# Altium footprint library PCB1.PcbLib: 20 footprints (part 1 of 2)
Each footprint in its own frame and in the unit in brackets; x right, y up, seen from the top. Pads: shape width x height; smd on the part's side, far side on the other; paste and mask are expansions set on the pad; w line width, h text height; cw(c..) or ccw(c..) is an arc to the next point about the centre after c.
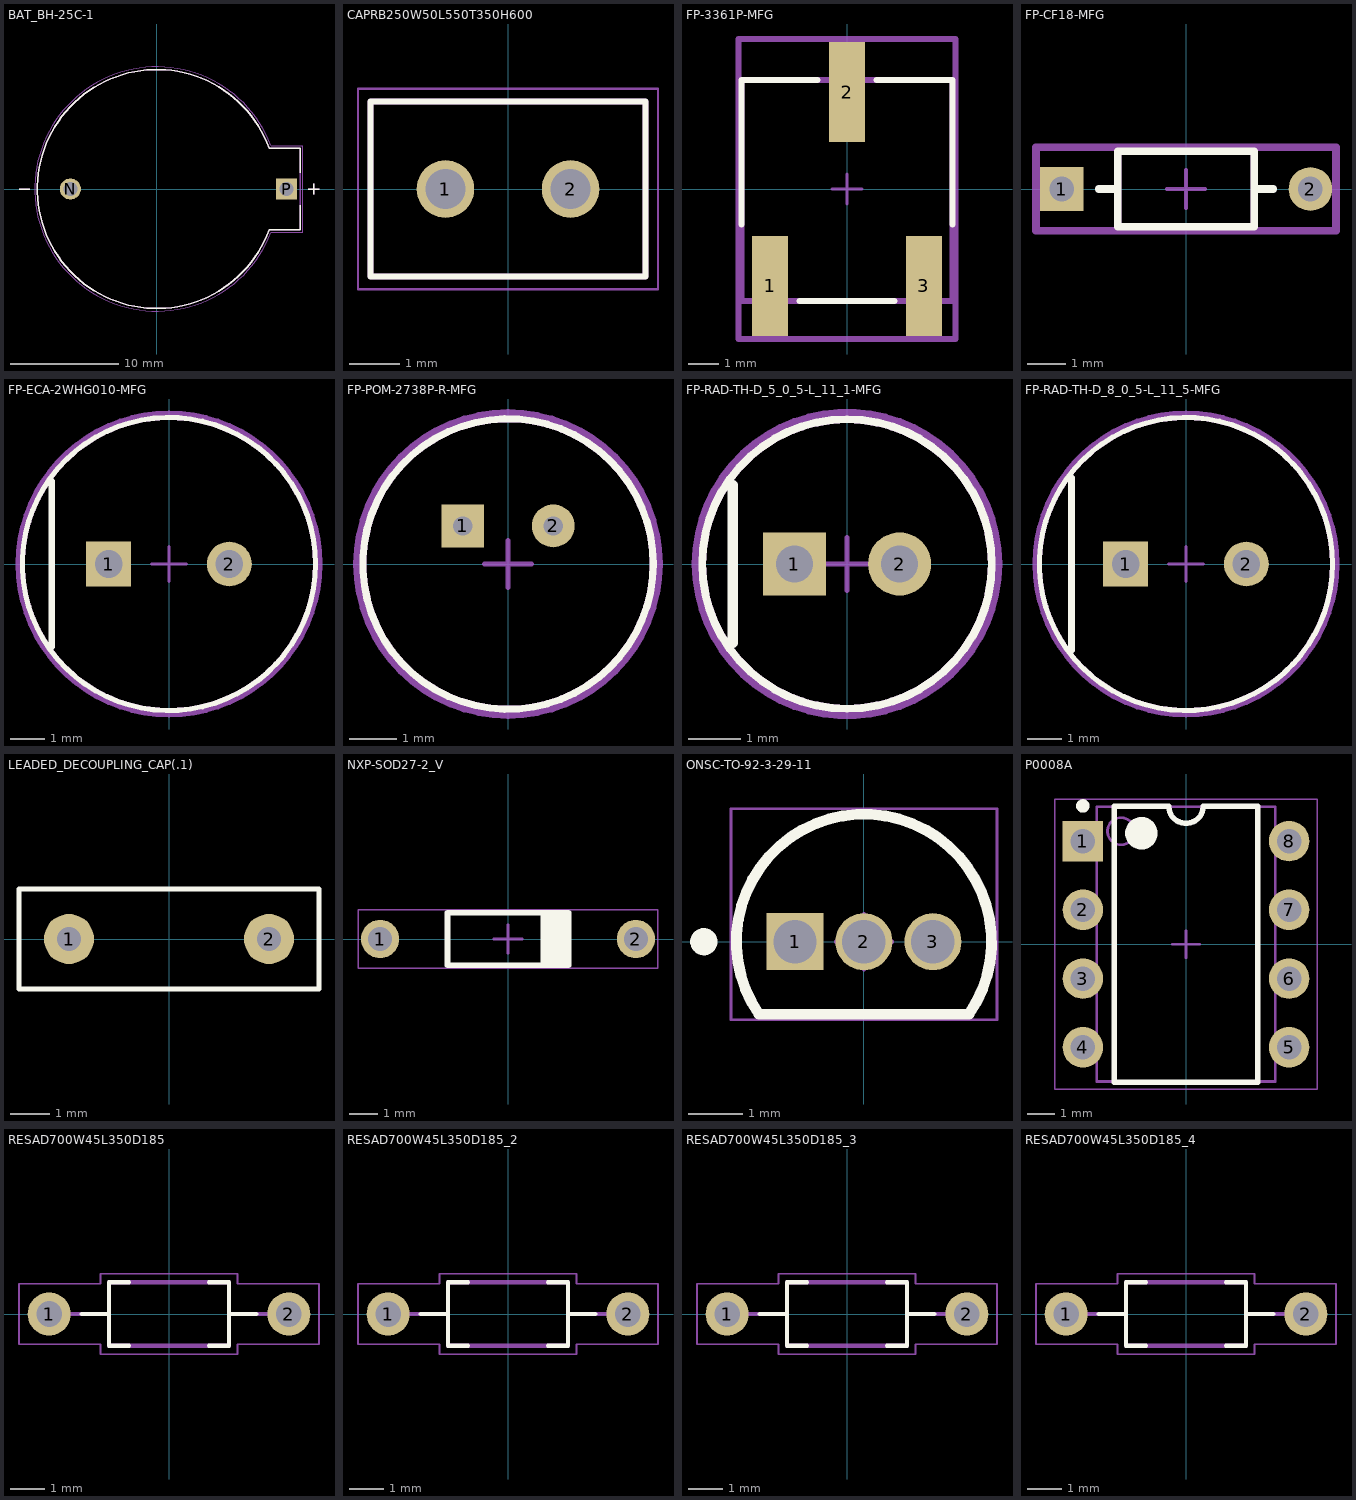
[diagram p0: the footprints below, top view; thin cyan lines are the x and y axes]

## BAT_BH-25C-1 [mm]
height 8.7
pads (2):
  round 1.95 hole 1.3: N(-8,0)
  rect 1.95x1.95 / inner round 1.95 / far side rect 1.95x1.95 hole 1.3: P(12,0)
Top Overlay:
  lines w0.127: -12.75,0 -11.75,0 ; 10.384,-3.779 cw(c0.001,0) 10.384,3.779 ; 10.394,-3.75 13.25,-3.75 13.25,-1.5 ; 10.394,3.75 13.25,3.75 13.25,1.5 ; 14,0 15,0 ; 14.5,-0.5 14.5,0.5
Mechanical 13:
  lines w0.127: -12.75,0 -11.75,0 ; 10.384,-3.779 cw(c0.001,0) 10.384,3.779 ; 10.394,-3.75 13.25,-3.75 13.25,3.75 10.394,3.75 ; 14,0 15,0 ; 14.5,-0.5 14.5,0.5
Mechanical 15:
  lines w0.05: 10.549,-4.05 cw(c-0.001,0) 10.549,4.05 ; 10.568,-4 13.5,-4 13.5,4 10.568,4

## CAPRB250W50L550T350H600 [mm]
height 8.7
pads (2):
  round 1.15 hole 0.8: 1(-1.25,0) 2(1.25,0)
Top Overlay:
  lines w0.127: -2.75,-1.75 -2.75,1.75 2.75,1.75 2.75,-1.75 -2.75,-1.75
Mechanical 13:
  lines w0.127: -2.75,-1.75 2.75,-1.75 2.75,1.75 -2.75,1.75 -2.75,-1.75
Mechanical 15:
  lines w0.05: -3,-2 3,-2 3,2 -3,2 -3,-2
3D body "step_temp.STEP": height 3, standoff -12, extent -2.75,-1.75 2.75,1.75

## FP-3361P-MFG [mm]
height 8.7
pads (3):
  rect 1.19x3.3 smd paste+0 mask+0: 1(-2.54,-3.2) 2(0,3.2) 3(2.54,-3.2)
Top Overlay:
  lines w0.2: -3.48,-1.175 -3.48,3.6 -0.97,3.6 ; -1.57,-3.69 1.57,-3.69 ; 0.97,3.6 3.48,3.6 3.48,-1.175
Top 3D Body:
  lines w0.2: -3.48,-3.69 -3.48,3.6 3.48,3.6 3.48,-3.69 -3.48,-3.69
Top Courtyard:
  lines w0.2: -3.58,-4.95 -3.58,4.95 3.58,4.95 3.58,-4.95 -3.58,-4.95
Top Assembly:
  lines w0.2: -3.58,-4.95 -3.58,4.95 3.58,4.95 3.58,-4.95 -3.58,-4.95
  text ".Designator" at 0,-0.001 h1
Top Component Center:
  lines w0.1: -0.5,0 0.5,0 ; 0,-0.5 0,0.5
3D body "Res_Bourns_3361P-1-502GLF_eec.STEP": height 0.25, standoff 0, extent -3.58,-4.95 3.58,4.95

## FP-CF18-MFG [mm]
height 8.7
pads (2):
  rect 1.15x1.15 hole 0.65 paste-2539.97 mask+0: 1(-3.28,0)
  round 1.15 hole 0.65 paste-2539.97 mask+0: 2(3.28,0)
Top Overlay:
  lines w0.2: -2.305,0 -1.8,0 ; 1.8,0 2.305,0 ; -1.8,-1 -1.8,1 1.8,1 1.8,-1 -1.8,-1
Top 3D Body:
  lines w0.2: -1.8,-1 -1.8,1 1.8,1 1.8,-1 -1.8,-1
Top Courtyard:
  lines w0.2: -3.955,-1.1 -3.955,1.1 3.955,1.1 3.955,-1.1 -3.955,-1.1
Top Assembly:
  lines w0.2: -3.955,-1.1 -3.955,1.1 3.955,1.1 3.955,-1.1 -3.955,-1.1
  text ".Designator" at 0,0.188 h1
Top Component Center:
  lines w0.1: -0.5,0 0.5,0 ; 0,-0.5 0,0.5
3D body "Res_Stackpole_Electronics_CF18JT10K0_eec.STEP": height 0.25, standoff 0, extent -3.955,-1.1 3.955,1.1

## FP-ECA-2WHG010-MFG [mm]
height 8.7
pads (2):
  rect 1.3x1.3 hole 0.8 paste-2539.97 mask+0: 1(-1.75,0)
  round 1.3 hole 0.8 paste-2539.97 mask+0: 2(1.75,0)
Top Overlay:
  circle w0.15: c0,0 r4.25
  lines w0.2: -3.4,-2.4 -3.4,2.4
Top 3D Body:
  circle w0.15: c0,0 r4.25
Top Courtyard:
  lines w0.2: -4.35,0 ccw(c0,0) 4.35,0 ccw(c0,0) -4.35,0
Top Assembly:
  text ".Designator" at 0,0.188 h1
Top Component Center:
  lines w0.1: -0.5,0 0.5,0 ; 0,-0.5 0,0.5
3D body "Cap_Panasonic_Electronic_Components_ECA-2WHG010_eec.STEP": height 0.25, standoff 0, extent -4.35,-4.35 4.35,4.35

## FP-POM-2738P-R-MFG [mm]
height 8.7
pads (2):
  rect 0.9x0.9 hole 0.4 paste-2539.97 mask+0: 1(-0.95,0.8)
  round 0.9 hole 0.4 paste-2539.97 mask+0: 2(0.95,0.8)
Top Overlay:
  circle w0.15: c0,0 r3.05
Top 3D Body:
  circle w0.15: c0,0 r3.05
Top Courtyard:
  lines w0.2: -3.15,0 ccw(c0,0) 3.15,0 ccw(c0,0) -3.15,0
Top Assembly:
  text ".Designator" at 0,-0.001 h1
Top Component Center:
  lines w0.1: -0.5,0 0.5,0 ; 0,-0.5 0,0.5
3D body "Speak_PUI_Audio_Inc_POM-2738P-R_eec.STEP": height 0.25, standoff 0, extent -3.15,-3.15 3.15,3.15

## FP-RAD-TH-D_5_0_5-L_11_1-MFG [mm]
height 8.7
pads (2):
  rect 1.2x1.2 hole 0.7 paste-2539.97 mask+0: 1(-1,0)
  round 1.2 hole 0.7 paste-2539.97 mask+0: 2(1,0)
Top Overlay:
  circle w0.15: c0,0 r2.75
  lines w0.2: -2.175,-1.5 -2.175,1.5
Top 3D Body:
  circle w0.15: c0,0 r2.75
Top Courtyard:
  lines w0.2: -2.85,0 ccw(c0,0) 2.85,0 ccw(c0,0) -2.85,0
Top Assembly:
  text ".Designator" at 0,0.188 h1
Top Component Center:
  lines w0.1: -0.5,0 0.5,0 ; 0,-0.5 0,0.5
3D body "Cap_Panasonic_ECA1CM220B_eec.STEP": height 0.25, standoff 0, extent -2.85,-2.85 2.85,2.85

## FP-RAD-TH-D_8_0_5-L_11_5-MFG [mm]
height 8.7
pads (2):
  rect 1.3x1.3 hole 0.8 paste-2539.97 mask+0: 1(-1.75,0)
  round 1.3 hole 0.8 paste-2539.97 mask+0: 2(1.75,0)
Top Overlay:
  circle w0.15: c0,0 r4.25
  lines w0.2: -3.325,-2.5 -3.325,2.5
Top 3D Body:
  circle w0.15: c0,0 r4.25
Top Courtyard:
  lines w0.2: -4.35,0 ccw(c0,0) 4.35,0 ccw(c0,0) -4.35,0
Top Assembly:
  text ".Designator" at 0,0.188 h1
Top Component Center:
  lines w0.1: -0.5,0 0.5,0 ; 0,-0.5 0,0.5
3D body "Cap_Panasonic_EEUFK1V181_eec.STEP": height 0.25, standoff 0, extent -4.35,-4.35 4.35,4.35

## LEADED_DECOUPLING_CAP(.1) [mil]
height 342.52
pads (2):
  round 50 hole 24: 1(-100,0) 2(100,0)
Top Overlay:
  lines w5: -150,-50 -150,50 150,50 150,-50 -150,-50
Mechanical 13:
  text ".1uF" at -125.2,-125.2 h50.08

## NXP-SOD27-2_V [mm] "SOD27, 2-Leads, Dia 1.85mm, Body Length 4.25mm, Pin Spacing 9mm"
height 1.85
pads (2):
  round 1.35 hole 0.85: 1(-4.5,0) 2(4.5,0)
Top Overlay:
  rectangle: 1.143,-0.925 2.125,0.925
  lines w0.2: -2.125,-0.925 -2.125,0.925 2.125,0.925 2.125,-0.925 -2.125,-0.925
Mechanical 13:
  lines w0.1: -2.125,-0.925 2.125,-0.925 2.125,0.925 -2.125,0.925 -2.125,-0.925
Mechanical 15:
  lines w0.05: -5.275,-1.025 -5.275,1.025 5.275,1.025 5.275,-1.025 -5.275,-1.025
  lines w0.1: -0.5,0 0.5,0 ; 0,-0.5 0,0.5
3D body: height 1.84, standoff 0, extent -2.125,-0.925 2.125,0.921
3D body: height 0.92, standoff -2, extent -4.778,-0.279 -4.22,0.28
3D body: height 0.92, standoff -2, extent 4.222,-0.279 4.78,0.28
3D body: height 1.2, standoff 0.64, extent 2.125,-0.279 4.5,0.279
3D body: height 1.2, standoff 0.64, extent -4.5,-0.279 -2.125,0.28
3D body: height 1.2, standoff 0.64, extent -4.777,-0.279 -4.22,0.279
3D body: height 1.2, standoff 0.64, extent 4.223,-0.279 4.78,0.279

## ONSC-TO-92-3-29-11 [mm] "TO, 3-Leads, Body Dia 4.7mm, Pitch 1.27mm"
height 7.87
pads (3):
  rect 1.05x1.05 hole 0.8: 1(-1.27,0)
  round 1.05 hole 0.8: 2(0,0) 3(1.27,0)
Top Overlay:
  circle w0.25: c-2.95,0 r0.125
  lines w0.2: -1.934,-1.335 cw(c0,0) 1.934,-1.335 -1.934,-1.335
Mechanical 13:
  lines w0.1: -1.934,-1.335 cw(c0,0) 1.934,-1.335 -1.934,-1.335
Mechanical 15:
  lines w0.05: -2.45,-1.435 -2.45,2.45 2.45,2.45 2.45,-1.435 -2.45,-1.435
  lines w0.1: -0.5,0 0.5,0 ; 0,-0.5 0,0.5
3D body: height 7.87, standoff 2.54, extent -2.349,-1.334 2.357,2.359

## P0008A [mm] "DIP, 8-Leads, Body 10.15x6.6mm, Pitch 2.54mm"
height 5.08
pads (8):
  rect 1.5x1.5 hole 0.9: 1(-3.81,3.81)
  round 1.5 hole 0.9: 2(-3.81,1.27) 3(-3.81,-1.27) 4(-3.81,-3.81) 5(3.81,-3.81) 6(3.81,-1.27) 7(3.81,1.27) 8(3.81,3.81)
Top Overlay:
  circle w0.25: c-3.81,5.11 r0.125
  circle w0.6: c-1.65,4.1 r0.3
  lines w0.2: -2.65,-5.1 -2.65,5.1 -0.635,5.1 ccw(c0,5.1) 0.635,5.1 2.65,5.1 2.65,-5.1 -2.65,-5.1
Mechanical 13:
  circle w0.1: c-2.4,4.175 r0.5
  lines w0.1: -3.3,-5.075 -3.3,5.075 3.3,5.075 3.3,-5.075 -3.3,-5.075
Mechanical 15:
  lines w0.05: -4.85,-5.35 -4.85,5.35 4.85,5.35 4.85,-5.35 -4.85,-5.35
  lines w0.1: -0.5,0 0.5,0 ; 0,-0.5 0,0.5
3D body: height 2.66, standoff 0, extent -3.945,3.31 -3.675,4.31
3D body: height 2.93, standoff 2.66, extent -3.945,3.31 -3.3,4.31
3D body: height 0, standoff -1.6, extent -3.945,3.45 -3.675,4.17
3D body: height 2.66, standoff 0, extent -3.945,0.77 -3.675,1.77
3D body: height 2.93, standoff 2.66, extent -3.945,0.77 -3.3,1.77
3D body: height 0, standoff -1.6, extent -3.945,0.91 -3.675,1.63
3D body: height 2.66, standoff 0, extent -3.945,-1.77 -3.675,-0.77
3D body: height 2.93, standoff 2.66, extent -3.945,-1.77 -3.3,-0.77
3D body: height 0, standoff -1.6, extent -3.945,-1.63 -3.675,-0.91
3D body: height 2.66, standoff 0, extent -3.945,-4.31 -3.675,-3.31
3D body: height 2.93, standoff 2.66, extent -3.945,-4.31 -3.3,-3.31
3D body: height 0, standoff -1.6, extent -3.945,-4.17 -3.675,-3.45
3D body: height 2.66, standoff 0, extent 3.675,-4.31 3.945,-3.31
3D body: height 2.93, standoff 2.66, extent 3.3,-4.31 3.945,-3.31
3D body: height 0, standoff -1.6, extent 3.675,-4.17 3.945,-3.45
3D body: height 2.66, standoff 0, extent 3.675,-1.77 3.945,-0.77
3D body: height 2.93, standoff 2.66, extent 3.3,-1.77 3.945,-0.77
3D body: height 0, standoff -1.6, extent 3.675,-1.63 3.945,-0.91
3D body: height 2.66, standoff 0, extent 3.675,0.77 3.945,1.77
3D body: height 2.93, standoff 2.66, extent 3.3,0.77 3.945,1.77
3D body: height 0, standoff -1.6, extent 3.675,0.91 3.945,1.63
3D body: height 2.66, standoff 0, extent 3.675,3.31 3.945,4.31
3D body: height 2.93, standoff 2.66, extent 3.3,3.31 3.945,4.31
3D body: height 0, standoff -1.6, extent 3.675,3.45 3.945,4.17
3D body: height 5.08, standoff 0.51, extent -3.3,-5.075 3.3,5.075

## RESAD700W45L350D185 [mm]
height 3.85
pads (2):
  round 1.258 hole 0.75: 1(-3.5,0) 2(3.5,0)
Top Overlay:
  lines w0.127: -2.55,0 -1.75,0 ; -1.17,-0.925 -1.75,-0.925 -1.75,0 ; -1.17,0.925 -1.75,0.925 -1.75,0 ; 1.17,-0.925 1.75,-0.925 1.75,0 ; 1.17,0.925 1.75,0.925 1.75,0 ; 2.55,0 1.75,0
Mechanical 13:
  lines w0.127: -2.925,0 -1.75,0 ; 2.925,0 1.75,0 ; -1.75,0 -1.75,-0.925 1.75,-0.925 1.75,0 ; -1.75,0 -1.75,0.925 1.75,0.925 1.75,0
Mechanical 15:
  lines w0.05: -4.38,-0.88 -2,-0.88 -2,-1.175 2,-1.175 2,-0.88 4.38,-0.88 4.38,0.88 2,0.88 2,1.175 -2,1.175 -2,0.88 -4.38,0.88 -4.38,-0.88

## RESAD700W45L350D185_2 [mm]
pads (2):
  round 1.258 hole 0.75: 1(-3.5,0) 2(3.5,0)
Top Overlay:
  lines w0.127: -2.55,0 -1.75,0 ; -1.17,-0.925 -1.75,-0.925 -1.75,0 ; -1.17,0.925 -1.75,0.925 -1.75,0 ; 1.17,-0.925 1.75,-0.925 1.75,0 ; 1.17,0.925 1.75,0.925 1.75,0 ; 2.55,0 1.75,0
Mechanical 13:
  lines w0.127: -2.925,0 -1.75,0 ; 2.925,0 1.75,0 ; -1.75,0 -1.75,-0.925 1.75,-0.925 1.75,0 ; -1.75,0 -1.75,0.925 1.75,0.925 1.75,0
Mechanical 15:
  lines w0.05: -4.38,-0.88 -2,-0.88 -2,-1.175 2,-1.175 2,-0.88 4.38,-0.88 4.38,0.88 2,0.88 2,1.175 -2,1.175 -2,0.88 -4.38,0.88 -4.38,-0.88

## RESAD700W45L350D185_3 [mm]
pads (2):
  round 1.258 hole 0.75: 1(-3.5,0) 2(3.5,0)
Top Overlay:
  lines w0.127: -2.55,0 -1.75,0 ; -1.17,-0.925 -1.75,-0.925 -1.75,0 ; -1.17,0.925 -1.75,0.925 -1.75,0 ; 1.17,-0.925 1.75,-0.925 1.75,0 ; 1.17,0.925 1.75,0.925 1.75,0 ; 2.55,0 1.75,0
Mechanical 13:
  lines w0.127: -2.925,0 -1.75,0 ; 2.925,0 1.75,0 ; -1.75,0 -1.75,-0.925 1.75,-0.925 1.75,0 ; -1.75,0 -1.75,0.925 1.75,0.925 1.75,0
Mechanical 15:
  lines w0.05: -4.38,-0.88 -2,-0.88 -2,-1.175 2,-1.175 2,-0.88 4.38,-0.88 4.38,0.88 2,0.88 2,1.175 -2,1.175 -2,0.88 -4.38,0.88 -4.38,-0.88

## RESAD700W45L350D185_4 [mm]
pads (2):
  round 1.258 hole 0.75: 1(-3.5,0) 2(3.5,0)
Top Overlay:
  lines w0.127: -2.55,0 -1.75,0 ; -1.17,-0.925 -1.75,-0.925 -1.75,0 ; -1.17,0.925 -1.75,0.925 -1.75,0 ; 1.17,-0.925 1.75,-0.925 1.75,0 ; 1.17,0.925 1.75,0.925 1.75,0 ; 2.55,0 1.75,0
Mechanical 13:
  lines w0.127: -2.925,0 -1.75,0 ; 2.925,0 1.75,0 ; -1.75,0 -1.75,-0.925 1.75,-0.925 1.75,0 ; -1.75,0 -1.75,0.925 1.75,0.925 1.75,0
Mechanical 15:
  lines w0.05: -4.38,-0.88 -2,-0.88 -2,-1.175 2,-1.175 2,-0.88 4.38,-0.88 4.38,0.88 2,0.88 2,1.175 -2,1.175 -2,0.88 -4.38,0.88 -4.38,-0.88